# Altium integrated library Analog Devices Operational Amplifiers.IntLib: 2102 symbols (part 65 of 70)
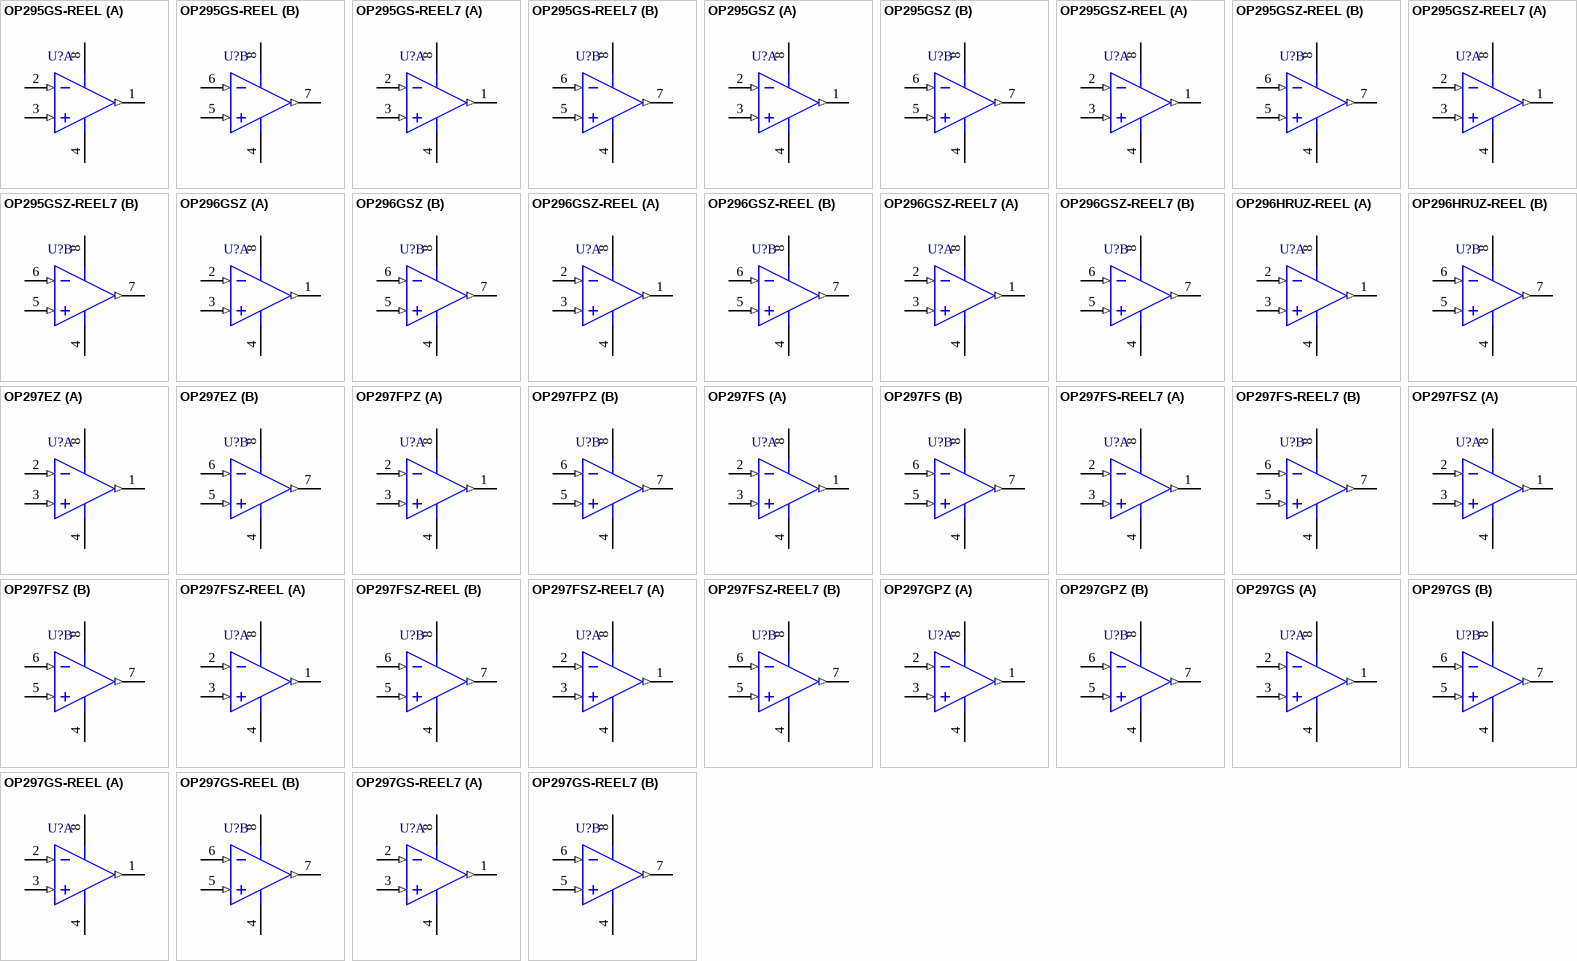
[diagram p178: symbols OP295GS-REEL to OP297GS-REEL7]

## OP297FSZ
designator U?
Double Channel Very Low Bias Current Operational Amplifier, 500 KHz BW, 150 mV/us SR, Industrial, 8-pin SOIC (R-8), Tube; Generic Part Number: OP297; Manufacturer: Analog Devices; PartNumber: OP297FSZ; Amplifiers Per Package: 2; Input Bias Current: 50pA; Input Offset Voltage: 80uV; Iq/Amp: 625uA; Small Signal Bandwidth: 500KHz; V Span Max: 40V; V Span Min: 4V; DatasheetVersion: Rev. G; PackageVersion: 060506-A; PackageReference: R-8; PackageDescription: 8-Pin Standard Small Outline Package, Body 3.9 x 4.9 mm, Pitch 1.27 mm; Supplier 1: Digi-Key; Supplier Part Number 1: OP297FSZ-ND; Supplier 2: Farnell; Supplier Part Number 2: 1319503; Supplier 3: Newark; Supplier Part Number 3: 19M8982; Packing: Tube; Slew Rate: 150mV/us; Mounting Technology: Surface Mount; Code_JEDEC: MS-012-AA; ComponentLink1Description: Manufacturer URL; ComponentLink1URL: http://www.analog.com/en/index.html; ComponentLink2Description: Datasheet; ComponentLink2URL: http://www.analog.com/static/imported-files/data_sheets/OP297.pdf; ComponentLink3Description: Package Specification; ComponentLink3URL: http://www.analog.com/static/imported-files/packages/PKG_PDF/SOIC_Narrow%20(R)/R_8.pdf
footprint ADI-R-8_N (SOIC, 8-Leads, Body 4.9x3.9mm, Pitch 1.27mm, IPC Medium Density)
footprint ADI-R-8_L (SOIC, 8-Leads, Body 4.9x3.9mm, Pitch 1.27mm, IPC High Density)
footprint ADI-R-8_M (SOIC, 8-Leads, Body 4.9x3.9mm, Pitch 1.27mm, IPC Low Density)
pins on every part: 4 -V (power), 8 +V (power)
part A pins: 1 OUT A (out), 2 -IN A (in), 3 +IN A (in)
part B pins: 5 +IN B (in), 6 -IN B (in), 7 OUT B (out)

## OP297FSZ-REEL
designator U?
Double Channel Very Low Bias Current Operational Amplifier, 500 KHz BW, 150 mV/us SR, Industrial, 8-pin SOIC (R-8), Reel; Generic Part Number: OP297; Manufacturer: Analog Devices; PartNumber: OP297FSZ-REEL; Amplifiers Per Package: 2; Input Bias Current: 50pA; Input Offset Voltage: 80uV; Iq/Amp: 625uA; Small Signal Bandwidth: 500KHz; V Span Max: 40V; V Span Min: 4V; DatasheetVersion: Rev. G; PackageVersion: 060506-A; PackageReference: R-8; PackageDescription: 8-Pin Standard Small Outline Package, Body 3.9 x 4.9 mm, Pitch 1.27 mm; Supplier 1: Digi-Key; Supplier Part Number 1: OP297FSZ-REEL-ND; Supplier 2: Newark; Supplier Part Number 2: 59K8878; Packing: Reel; Slew Rate: 150mV/us; Mounting Technology: Surface Mount; Code_JEDEC: MS-012-AA; ComponentLink1Description: Manufacturer URL; ComponentLink1URL: http://www.analog.com/en/index.html; ComponentLink2Description: Datasheet; ComponentLink2URL: http://www.analog.com/static/imported-files/data_sheets/OP297.pdf; ComponentLink3Description: Package Specification; ComponentLink3URL: http://www.analog.com/static/imported-files/packages/PKG_PDF/SOIC_Narrow%20(R)/R_8.pdf
footprint ADI-R-8_N (SOIC, 8-Leads, Body 4.9x3.9mm, Pitch 1.27mm, IPC Medium Density)
footprint ADI-R-8_L (SOIC, 8-Leads, Body 4.9x3.9mm, Pitch 1.27mm, IPC High Density)
footprint ADI-R-8_M (SOIC, 8-Leads, Body 4.9x3.9mm, Pitch 1.27mm, IPC Low Density)
pins on every part: 4 -V (power), 8 +V (power)
part A pins: 1 OUT A (out), 2 -IN A (in), 3 +IN A (in)
part B pins: 5 +IN B (in), 6 -IN B (in), 7 OUT B (out)

## OP297FSZ-REEL7
designator U?
Double Channel Very Low Bias Current Operational Amplifier, 500 KHz BW, 150 mV/us SR, Industrial, 8-pin SOIC (R-8), Reel; Generic Part Number: OP297; Manufacturer: Analog Devices; PartNumber: OP297FSZ-REEL7; Amplifiers Per Package: 2; Input Bias Current: 50pA; Input Offset Voltage: 80uV; Iq/Amp: 625uA; Small Signal Bandwidth: 500KHz; V Span Max: 40V; V Span Min: 4V; DatasheetVersion: Rev. G; PackageVersion: 060506-A; PackageReference: R-8; PackageDescription: 8-Pin Standard Small Outline Package, Body 3.9 x 4.9 mm, Pitch 1.27 mm; Supplier 1: Digi-Key; Supplier Part Number 1: OP297FSZ-REEL7TR-ND; Supplier 2: Digi-Key; Supplier Part Number 2: OP297FSZ-REEL7CT-ND; Supplier 3: Digi-Key; Supplier Part Number 3: OP297FSZ-REEL7DKR-ND; Supplier 4: Newark; Supplier Part Number 4: 59K8879; Packing: Reel; Slew Rate: 150mV/us; Mounting Technology: Surface Mount; Code_JEDEC: MS-012-AA; ComponentLink1Description: Manufacturer URL; ComponentLink1URL: http://www.analog.com/en/index.html; ComponentLink2Description: Datasheet; ComponentLink2URL: http://www.analog.com/static/imported-files/data_sheets/OP297.pdf; ComponentLink3Description: Package Specification; ComponentLink3URL: http://www.analog.com/static/imported-files/packages/PKG_PDF/SOIC_Narrow%20(R)/R_8.pdf
footprint ADI-R-8_N (SOIC, 8-Leads, Body 4.9x3.9mm, Pitch 1.27mm, IPC Medium Density)
footprint ADI-R-8_L (SOIC, 8-Leads, Body 4.9x3.9mm, Pitch 1.27mm, IPC High Density)
footprint ADI-R-8_M (SOIC, 8-Leads, Body 4.9x3.9mm, Pitch 1.27mm, IPC Low Density)
pins on every part: 4 -V (power), 8 +V (power)
part A pins: 1 OUT A (out), 2 -IN A (in), 3 +IN A (in)
part B pins: 5 +IN B (in), 6 -IN B (in), 7 OUT B (out)

## OP297GPZ
designator U?
Double Channel Very Low Bias Current Operational Amplifier, 500 KHz BW, 150 mV/us SR, Industrial, 8-pin DIP (N-8), Tube; Generic Part Number: OP297; Manufacturer: Analog Devices; PartNumber: OP297GPZ; Amplifiers Per Package: 2; Input Bias Current: 50pA; Input Offset Voltage: 80uV; Iq/Amp: 625uA; Small Signal Bandwidth: 500KHz; V Span Max: 40V; V Span Min: 4V; DatasheetVersion: Rev. G; PackageVersion: 070606-A; PackageReference: N-8; PackageDescription: 8-Pin Plastic Dual In-Line Package, Row spacing 7.62 mm, Pitch 2.54 mm; Supplier 1: Digi-Key; Supplier Part Number 1: OP297GPZ-ND; Supplier 2: Farnell; Supplier Part Number 2: 9604758; Supplier 3: Newark; Supplier Part Number 3: 19M8983; Packing: Tube; Slew Rate: 150mV/us; Mounting Technology: Through Hole; Code_JEDEC: MS-001; ComponentLink1Description: Manufacturer URL; ComponentLink1URL: http://www.analog.com/en/index.html; ComponentLink2Description: Datasheet; ComponentLink2URL: http://www.analog.com/static/imported-files/data_sheets/OP297.pdf; ComponentLink3Description: Package Specification; ComponentLink3URL: http:/www.analog.com/static/imported-files/packages/PKG_PDF/PDIP(N)/N_8.pdf
footprint ADI-N-8 (DIP, 8-Leads, Body 9.59x6.6mm, Pitch 2.54mm)
pins on every part: 4 -V (power), 8 +V (power)
part A pins: 1 OUT A (out), 2 -IN A (in), 3 +IN A (in)
part B pins: 5 +IN B (in), 6 -IN B (in), 7 OUT B (out)

## OP297GS
designator U?
Double Channel Very Low Bias Current Operational Amplifier, 500 KHz BW, 150 mV/us SR, Industrial, 8-pin SOIC (R-8), Tube; Generic Part Number: OP297; Manufacturer: Analog Devices; PartNumber: OP297GS; Amplifiers Per Package: 2; Input Bias Current: 50pA; Input Offset Voltage: 80uV; Iq/Amp: 625uA; Small Signal Bandwidth: 500KHz; V Span Max: 40V; V Span Min: 4V; DatasheetVersion: Rev. G; PackageVersion: 060506-A; PackageReference: R-8; PackageDescription: 8-Pin Standard Small Outline Package, Body 3.9 x 4.9 mm, Pitch 1.27 mm; Supplier 1: Digi-Key; Supplier Part Number 1: OP297GS-ND; Packing: Tube; Slew Rate: 150mV/us; Mounting Technology: Surface Mount; Code_JEDEC: MS-012-AA; ComponentLink1Description: Manufacturer URL; ComponentLink1URL: http://www.analog.com/en/index.html; ComponentLink2Description: Datasheet; ComponentLink2URL: http://www.analog.com/static/imported-files/data_sheets/OP297.pdf; ComponentLink3Description: Package Specification; ComponentLink3URL: http://www.analog.com/static/imported-files/packages/PKG_PDF/SOIC_Narrow%20(R)/R_8.pdf
footprint ADI-R-8_N (SOIC, 8-Leads, Body 4.9x3.9mm, Pitch 1.27mm, IPC Medium Density)
footprint ADI-R-8_L (SOIC, 8-Leads, Body 4.9x3.9mm, Pitch 1.27mm, IPC High Density)
footprint ADI-R-8_M (SOIC, 8-Leads, Body 4.9x3.9mm, Pitch 1.27mm, IPC Low Density)
pins on every part: 4 -V (power), 8 +V (power)
part A pins: 1 OUT A (out), 2 -IN A (in), 3 +IN A (in)
part B pins: 5 +IN B (in), 6 -IN B (in), 7 OUT B (out)

## OP297GS-REEL
designator U?
Double Channel Very Low Bias Current Operational Amplifier, 500 KHz BW, 150 mV/us SR, Industrial, 8-pin SOIC (R-8), Reel; Generic Part Number: OP297; Manufacturer: Analog Devices; PartNumber: OP297GS-REEL; Amplifiers Per Package: 2; Input Bias Current: 50pA; Input Offset Voltage: 80uV; Iq/Amp: 625uA; Small Signal Bandwidth: 500KHz; V Span Max: 40V; V Span Min: 4V; DatasheetVersion: Rev. G; PackageVersion: 060506-A; PackageReference: R-8; PackageDescription: 8-Pin Standard Small Outline Package, Body 3.9 x 4.9 mm, Pitch 1.27 mm; Supplier 1: Digi-Key; Supplier Part Number 1: OP297GS-REEL-ND; Supplier 2: Newark; Supplier Part Number 2: 13B4628; Packing: Reel; Slew Rate: 150mV/us; Mounting Technology: Surface Mount; Code_JEDEC: MS-012-AA; ComponentLink1Description: Manufacturer URL; ComponentLink1URL: http://www.analog.com/en/index.html; ComponentLink2Description: Datasheet; ComponentLink2URL: http://www.analog.com/static/imported-files/data_sheets/OP297.pdf; ComponentLink3Description: Package Specification; ComponentLink3URL: http://www.analog.com/static/imported-files/packages/PKG_PDF/SOIC_Narrow%20(R)/R_8.pdf
footprint ADI-R-8_N (SOIC, 8-Leads, Body 4.9x3.9mm, Pitch 1.27mm, IPC Medium Density)
footprint ADI-R-8_L (SOIC, 8-Leads, Body 4.9x3.9mm, Pitch 1.27mm, IPC High Density)
footprint ADI-R-8_M (SOIC, 8-Leads, Body 4.9x3.9mm, Pitch 1.27mm, IPC Low Density)
pins on every part: 4 -V (power), 8 +V (power)
part A pins: 1 OUT A (out), 2 -IN A (in), 3 +IN A (in)
part B pins: 5 +IN B (in), 6 -IN B (in), 7 OUT B (out)

## OP297GS-REEL7
designator U?
Double Channel Very Low Bias Current Operational Amplifier, 500 KHz BW, 150 mV/us SR, Industrial, 8-pin SOIC (R-8), Reel; Generic Part Number: OP297; Manufacturer: Analog Devices; PartNumber: OP297GS-REEL7; Amplifiers Per Package: 2; Input Bias Current: 50pA; Input Offset Voltage: 80uV; Iq/Amp: 625uA; Small Signal Bandwidth: 500KHz; V Span Max: 40V; V Span Min: 4V; DatasheetVersion: Rev. G; PackageVersion: 060506-A; PackageReference: R-8; PackageDescription: 8-Pin Standard Small Outline Package, Body 3.9 x 4.9 mm, Pitch 1.27 mm; Supplier 1: Digi-Key; Supplier Part Number 1: OP297GS-REEL7TR-ND; Supplier 2: Digi-Key; Supplier Part Number 2: OP297GS-REEL7CT-ND; Supplier 3: Digi-Key; Supplier Part Number 3: OP297GS-REEL7DKR-ND; Supplier 4: Newark; Supplier Part Number 4: 13B4629; Packing: Reel; Slew Rate: 150mV/us; Mounting Technology: Surface Mount; Code_JEDEC: MS-012-AA; ComponentLink1Description: Manufacturer URL; ComponentLink1URL: http://www.analog.com/en/index.html; ComponentLink2Description: Datasheet; ComponentLink2URL: http://www.analog.com/static/imported-files/data_sheets/OP297.pdf; ComponentLink3Description: Package Specification; ComponentLink3URL: http://www.analog.com/static/imported-files/packages/PKG_PDF/SOIC_Narrow%20(R)/R_8.pdf
footprint ADI-R-8_N (SOIC, 8-Leads, Body 4.9x3.9mm, Pitch 1.27mm, IPC Medium Density)
footprint ADI-R-8_L (SOIC, 8-Leads, Body 4.9x3.9mm, Pitch 1.27mm, IPC High Density)
footprint ADI-R-8_M (SOIC, 8-Leads, Body 4.9x3.9mm, Pitch 1.27mm, IPC Low Density)
pins on every part: 4 -V (power), 8 +V (power)
part A pins: 1 OUT A (out), 2 -IN A (in), 3 +IN A (in)
part B pins: 5 +IN B (in), 6 -IN B (in), 7 OUT B (out)

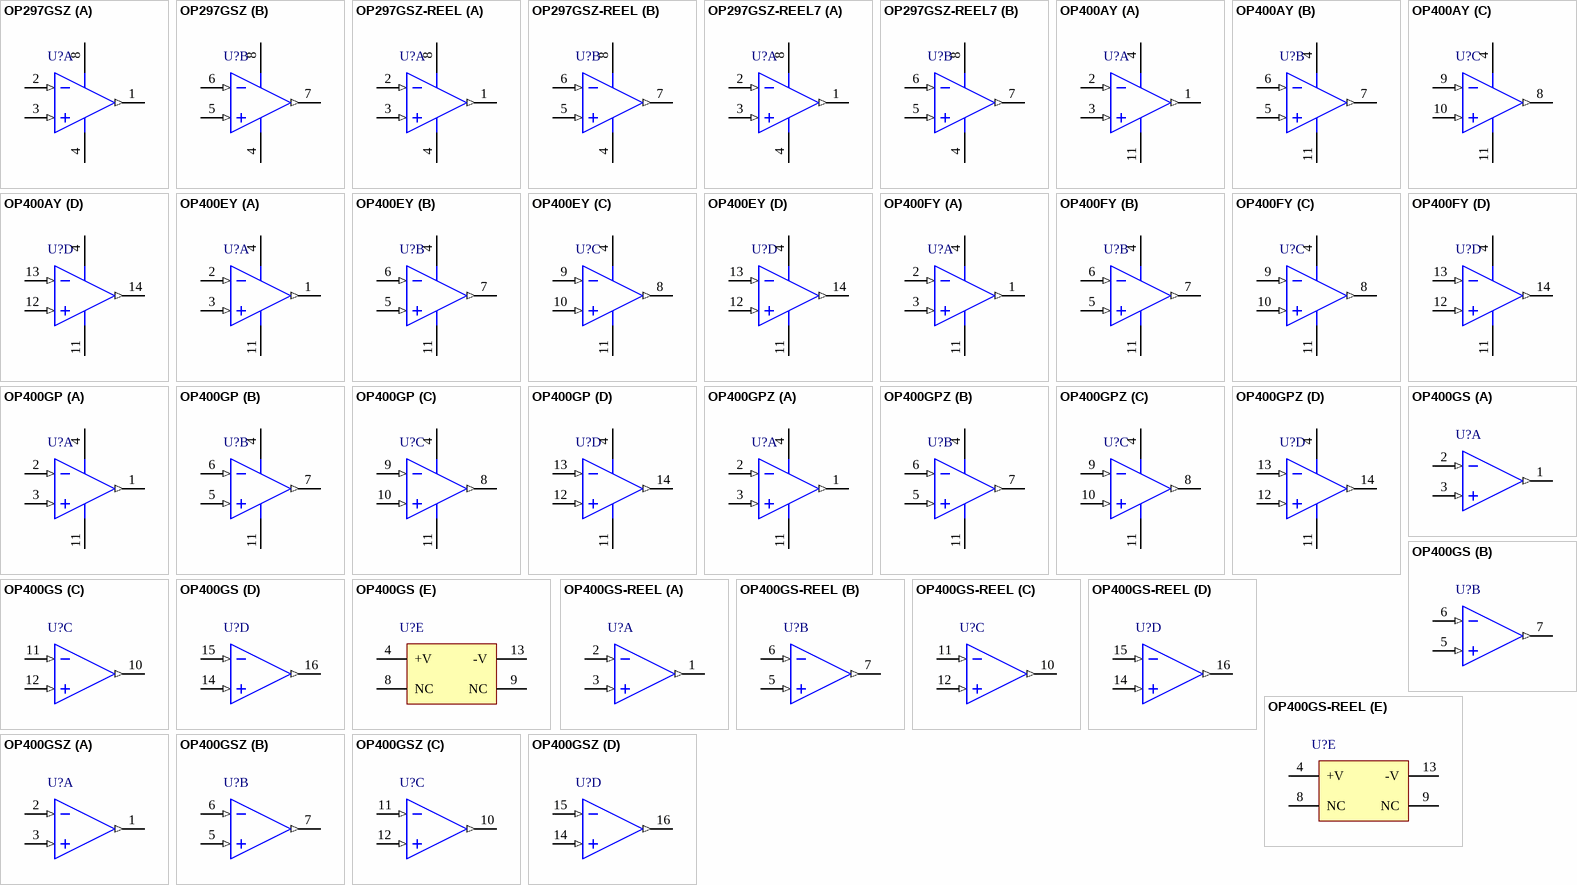
[diagram p100: symbols OP297GSZ to OP400GSZ]

## OP297GSZ
designator U?
Double Channel Very Low Bias Current Operational Amplifier, 500 KHz BW, 150 mV/us SR, Industrial, 8-pin SOIC (R-8), Tube; Generic Part Number: OP297; Manufacturer: Analog Devices; PartNumber: OP297GSZ; Amplifiers Per Package: 2; Input Bias Current: 50pA; Input Offset Voltage: 80uV; Iq/Amp: 625uA; Small Signal Bandwidth: 500KHz; V Span Max: 40V; V Span Min: 4V; DatasheetVersion: Rev. G; PackageVersion: 060506-A; PackageReference: R-8; PackageDescription: 8-Pin Standard Small Outline Package, Body 3.9 x 4.9 mm, Pitch 1.27 mm; Supplier 1: Digi-Key; Supplier Part Number 1: OP297GSZ-ND; Supplier 2: Farnell; Supplier Part Number 2: 9426299; Supplier 3: Newark; Supplier Part Number 3: 56K8267; Packing: Tube; Slew Rate: 150mV/us; Mounting Technology: Surface Mount; Code_JEDEC: MS-012-AA; ComponentLink1Description: Manufacturer URL; ComponentLink1URL: http://www.analog.com/en/index.html; ComponentLink2Description: Datasheet; ComponentLink2URL: http://www.analog.com/static/imported-files/data_sheets/OP297.pdf; ComponentLink3Description: Package Specification; ComponentLink3URL: http://www.analog.com/static/imported-files/packages/PKG_PDF/SOIC_Narrow%20(R)/R_8.pdf
footprint ADI-R-8_N (SOIC, 8-Leads, Body 4.9x3.9mm, Pitch 1.27mm, IPC Medium Density)
footprint ADI-R-8_L (SOIC, 8-Leads, Body 4.9x3.9mm, Pitch 1.27mm, IPC High Density)
footprint ADI-R-8_M (SOIC, 8-Leads, Body 4.9x3.9mm, Pitch 1.27mm, IPC Low Density)
pins on every part: 4 -V (power), 8 +V (power)
part A pins: 1 OUT A (out), 2 -IN A (in), 3 +IN A (in)
part B pins: 5 +IN B (in), 6 -IN B (in), 7 OUT B (out)

## OP297GSZ-REEL
designator U?
Double Channel Very Low Bias Current Operational Amplifier, 500 KHz BW, 150 mV/us SR, Industrial, 8-pin SOIC (R-8), Reel; Generic Part Number: OP297; Manufacturer: Analog Devices; PartNumber: OP297GSZ-REEL; Amplifiers Per Package: 2; Input Bias Current: 50pA; Input Offset Voltage: 80uV; Iq/Amp: 625uA; Small Signal Bandwidth: 500KHz; V Span Max: 40V; V Span Min: 4V; DatasheetVersion: Rev. G; PackageVersion: 060506-A; PackageReference: R-8; PackageDescription: 8-Pin Standard Small Outline Package, Body 3.9 x 4.9 mm, Pitch 1.27 mm; Supplier 1: Digi-Key; Supplier Part Number 1: OP297GSZ-REEL-ND; Supplier 2: Newark; Supplier Part Number 2: 59K8882; Packing: Reel; Slew Rate: 150mV/us; Mounting Technology: Surface Mount; Code_JEDEC: MS-012-AA; ComponentLink1Description: Manufacturer URL; ComponentLink1URL: http://www.analog.com/en/index.html; ComponentLink2Description: Datasheet; ComponentLink2URL: http://www.analog.com/static/imported-files/data_sheets/OP297.pdf; ComponentLink3Description: Package Specification; ComponentLink3URL: http://www.analog.com/static/imported-files/packages/PKG_PDF/SOIC_Narrow%20(R)/R_8.pdf
footprint ADI-R-8_N (SOIC, 8-Leads, Body 4.9x3.9mm, Pitch 1.27mm, IPC Medium Density)
footprint ADI-R-8_L (SOIC, 8-Leads, Body 4.9x3.9mm, Pitch 1.27mm, IPC High Density)
footprint ADI-R-8_M (SOIC, 8-Leads, Body 4.9x3.9mm, Pitch 1.27mm, IPC Low Density)
pins on every part: 4 -V (power), 8 +V (power)
part A pins: 1 OUT A (out), 2 -IN A (in), 3 +IN A (in)
part B pins: 5 +IN B (in), 6 -IN B (in), 7 OUT B (out)

## OP297GSZ-REEL7
designator U?
Double Channel Very Low Bias Current Operational Amplifier, 500 KHz BW, 150 mV/us SR, Industrial, 8-pin SOIC (R-8), Reel; Generic Part Number: OP297; Manufacturer: Analog Devices; PartNumber: OP297GSZ-REEL7; Amplifiers Per Package: 2; Input Bias Current: 50pA; Input Offset Voltage: 80uV; Iq/Amp: 625uA; Small Signal Bandwidth: 500KHz; V Span Max: 40V; V Span Min: 4V; DatasheetVersion: Rev. G; PackageVersion: 060506-A; PackageReference: R-8; PackageDescription: 8-Pin Standard Small Outline Package, Body 3.9 x 4.9 mm, Pitch 1.27 mm; Supplier 1: Digi-Key; Supplier Part Number 1: OP297GSZ-REEL7TR-ND; Supplier 2: Digi-Key; Supplier Part Number 2: OP297GSZ-REEL7CT-ND; Supplier 3: Digi-Key; Supplier Part Number 3: OP297GSZ-REEL7DKR-ND; Supplier 4: Newark; Supplier Part Number 4: 59K8883; Packing: Reel; Slew Rate: 150mV/us; Mounting Technology: Surface Mount; Code_JEDEC: MS-012-AA; ComponentLink1Description: Manufacturer URL; ComponentLink1URL: http://www.analog.com/en/index.html; ComponentLink2Description: Datasheet; ComponentLink2URL: http://www.analog.com/static/imported-files/data_sheets/OP297.pdf; ComponentLink3Description: Package Specification; ComponentLink3URL: http://www.analog.com/static/imported-files/packages/PKG_PDF/SOIC_Narrow%20(R)/R_8.pdf
footprint ADI-R-8_N (SOIC, 8-Leads, Body 4.9x3.9mm, Pitch 1.27mm, IPC Medium Density)
footprint ADI-R-8_L (SOIC, 8-Leads, Body 4.9x3.9mm, Pitch 1.27mm, IPC High Density)
footprint ADI-R-8_M (SOIC, 8-Leads, Body 4.9x3.9mm, Pitch 1.27mm, IPC Low Density)
pins on every part: 4 -V (power), 8 +V (power)
part A pins: 1 OUT A (out), 2 -IN A (in), 3 +IN A (in)
part B pins: 5 +IN B (in), 6 -IN B (in), 7 OUT B (out)

## OP400AY
designator U?
Quad Channel Low Supply Current Operational Amplifier, 500 KHz BW, 150 mV/us SR, Industrial, 14-pin DIP (Q-14), Tube; Generic Part Number: OP400; Manufacturer: Analog Devices; PartNumber: OP400AY; Amplifiers Per Package: 4; Input Bias Current: 750pA; Input Offset Voltage: 80uV; Iq/Amp: 725uA; Small Signal Bandwidth: 500KHz; V Span Max: 40V; V Span Min: 6V; DatasheetVersion: Rev. G; PackageReference: Q-14; PackageDescription: 14-Pin Ceramic Dual In-Line Package, Row spacing 7.62 mm, Pitch 2.54 mm; Supplier 1: Digi-Key; Supplier Part Number 1: OP400AY-ND; Supplier 2: Newark; Supplier Part Number 2: 66F5753; Packing: Tube; Slew Rate: 150mV/us; Mounting Technology: Through Hole; ComponentLink1Description: Manufacturer URL; ComponentLink1URL: http://www.analog.com/en/index.html; ComponentLink2Description: Datasheet; ComponentLink2URL: http://www.analog.com/static/imported-files/data_sheets/OP400.pdf; ComponentLink3Description: Package Specification; ComponentLink3URL: http://www.analog.com/static/imported-files/packages/393665681442905251546090Q_14.pdf
footprint ADI-Q-14 (DIP, 14-Leads, Body 19.94x6.73mm, Pitch 2.54mm)
pins on every part: 4 +V (power), 11 -V (power)
part A pins: 1 OUT A (out), 2 -IN A (in), 3 +IN A (in)
part B pins: 5 +IN B (in), 6 -IN B (in), 7 OUT B (out)
part C pins: 8 OUT C (out), 9 -IN C (in), 10 +IN C (in)
part D pins: 12 +IN D (in), 13 -IN D (in), 14 OUT D (out)

## OP400EY
designator U?
Quad Channel Low Supply Current Operational Amplifier, 500 KHz BW, 150 mV/us SR, Industrial, 14-pin DIP (Q-14), Tube; Generic Part Number: OP400; Manufacturer: Analog Devices; PartNumber: OP400EY; Amplifiers Per Package: 4; Input Bias Current: 750pA; Input Offset Voltage: 80uV; Iq/Amp: 725uA; Small Signal Bandwidth: 500KHz; V Span Max: 40V; V Span Min: 6V; DatasheetVersion: Rev. G; PackageReference: Q-14; PackageDescription: 14-Pin Ceramic Dual In-Line Package, Row spacing 7.62 mm, Pitch 2.54 mm; Supplier 1: Digi-Key; Supplier Part Number 1: OP400EY-ND; Supplier 2: Farnell; Supplier Part Number 2: 2241638; Supplier 3: Newark; Supplier Part Number 3: 05F8665; Packing: Tube; Slew Rate: 150mV/us; Mounting Technology: Through Hole; ComponentLink1Description: Manufacturer URL; ComponentLink1URL: http://www.analog.com/en/index.html; ComponentLink2Description: Datasheet; ComponentLink2URL: http://www.analog.com/static/imported-files/data_sheets/OP400.pdf; ComponentLink3Description: Package Specification; ComponentLink3URL: http://www.analog.com/static/imported-files/packages/393665681442905251546090Q_14.pdf
footprint ADI-Q-14 (DIP, 14-Leads, Body 19.94x6.73mm, Pitch 2.54mm)
pins on every part: 4 +V (power), 11 -V (power)
part A pins: 1 OUT A (out), 2 -IN A (in), 3 +IN A (in)
part B pins: 5 +IN B (in), 6 -IN B (in), 7 OUT B (out)
part C pins: 8 OUT C (out), 9 -IN C (in), 10 +IN C (in)
part D pins: 12 +IN D (in), 13 -IN D (in), 14 OUT D (out)

## OP400FY
designator U?
Quad Channel Low Supply Current Operational Amplifier, 500 KHz BW, 150 mV/us SR, Industrial, 14-pin DIP (Q-14), Tube; Generic Part Number: OP400; Manufacturer: Analog Devices; PartNumber: OP400FY; Amplifiers Per Package: 4; Input Bias Current: 750pA; Input Offset Voltage: 80uV; Iq/Amp: 725uA; Small Signal Bandwidth: 500KHz; V Span Max: 40V; V Span Min: 6V; DatasheetVersion: Rev. G; PackageReference: Q-14; PackageDescription: 14-Pin Ceramic Dual In-Line Package, Row spacing 7.62 mm, Pitch 2.54 mm; Supplier 1: Digi-Key; Supplier Part Number 1: OP400FY-ND; Supplier 2: Farnell; Supplier Part Number 2: 400403; Supplier 3: Newark; Supplier Part Number 3: 05F8666; Packing: Tube; Slew Rate: 150mV/us; Mounting Technology: Through Hole; ComponentLink1Description: Manufacturer URL; ComponentLink1URL: http://www.analog.com/en/index.html; ComponentLink2Description: Datasheet; ComponentLink2URL: http://www.analog.com/static/imported-files/data_sheets/OP400.pdf; ComponentLink3Description: Package Specification; ComponentLink3URL: http://www.analog.com/static/imported-files/packages/393665681442905251546090Q_14.pdf
footprint ADI-Q-14 (DIP, 14-Leads, Body 19.94x6.73mm, Pitch 2.54mm)
pins on every part: 4 +V (power), 11 -V (power)
part A pins: 1 OUT A (out), 2 -IN A (in), 3 +IN A (in)
part B pins: 5 +IN B (in), 6 -IN B (in), 7 OUT B (out)
part C pins: 8 OUT C (out), 9 -IN C (in), 10 +IN C (in)
part D pins: 12 +IN D (in), 13 -IN D (in), 14 OUT D (out)

## OP400GP
designator U?
Quad Channel Low Supply Current Operational Amplifier, 500 KHz BW, 150 mV/us SR, Commercial, 14-pin DIP (N-14), Tube; Generic Part Number: OP400; Manufacturer: Analog Devices; PartNumber: OP400GP; Amplifiers Per Package: 4; Input Bias Current: 750pA; Input Offset Voltage: 80uV; Iq/Amp: 600uA; Small Signal Bandwidth: 500KHz; V Span Max: 40V; V Span Min: 6V; DatasheetVersion: Rev. G; PackageVersion: 070606-A; PackageReference: N-14; PackageDescription: 14-Pin Plastic Dual In-Line Package, Row spacing 7.62 mm, Pitch 2.54 mm; Supplier 1: Digi-Key; Supplier Part Number 1: OP400GP-ND; Packing: Tube; Slew Rate: 150mV/us; Mounting Technology: Through Hole; Code_JEDEC: MS-001; ComponentLink1Description: Manufacturer URL; ComponentLink1URL: http://www.analog.com/en/index.html; ComponentLink2Description: Datasheet; ComponentLink2URL: http://www.analog.com/static/imported-files/data_sheets/OP400.pdf; ComponentLink3Description: Package Specification; ComponentLink3URL: http://www.analog.com/static/imported-files/packages/N_14.pdf
footprint ADI-N-14 (DIP, 14-Leads, Body 19.18x6.605mm, Pitch 2.54mm)
pins on every part: 4 +V (power), 11 -V (power)
part A pins: 1 OUT A (out), 2 -IN A (in), 3 +IN A (in)
part B pins: 5 +IN B (in), 6 -IN B (in), 7 OUT B (out)
part C pins: 8 OUT C (out), 9 -IN C (in), 10 +IN C (in)
part D pins: 12 +IN D (in), 13 -IN D (in), 14 OUT D (out)

## OP400GPZ
designator U?
Quad Channel Low Supply Current Operational Amplifier, 500 KHz BW, 150 mV/us SR, Commercial, 14-pin DIP (N-14), Tube; Generic Part Number: OP400; Manufacturer: Analog Devices; PartNumber: OP400GPZ; Amplifiers Per Package: 4; Input Bias Current: 750pA; Input Offset Voltage: 80uV; Iq/Amp: 600uA; Small Signal Bandwidth: 500KHz; V Span Max: 40V; V Span Min: 6V; DatasheetVersion: Rev. G; PackageVersion: 070606-A; PackageReference: N-14; PackageDescription: 14-Pin Plastic Dual In-Line Package, Row spacing 7.62 mm, Pitch 2.54 mm; Supplier 1: Digi-Key; Supplier Part Number 1: OP400GPZ-ND; Supplier 2: Farnell; Supplier Part Number 2: 1523896; Supplier 3: Farnell; Supplier Part Number 3: 9604782; Supplier 4: Newark; Supplier Part Number 4: 59K8889; Packing: Tube; Slew Rate: 150mV/us; Mounting Technology: Through Hole; Code_JEDEC: MS-001; ComponentLink1Description: Manufacturer URL; ComponentLink1URL: http://www.analog.com/en/index.html; ComponentLink2Description: Datasheet; ComponentLink2URL: http://www.analog.com/static/imported-files/data_sheets/OP400.pdf; ComponentLink3Description: Package Specification; ComponentLink3URL: http://www.analog.com/static/imported-files/packages/N_14.pdf
footprint ADI-N-14 (DIP, 14-Leads, Body 19.18x6.605mm, Pitch 2.54mm)
pins on every part: 4 +V (power), 11 -V (power)
part A pins: 1 OUT A (out), 2 -IN A (in), 3 +IN A (in)
part B pins: 5 +IN B (in), 6 -IN B (in), 7 OUT B (out)
part C pins: 8 OUT C (out), 9 -IN C (in), 10 +IN C (in)
part D pins: 12 +IN D (in), 13 -IN D (in), 14 OUT D (out)

## OP400GS
designator U?
Quad Channel Low Supply Current Operational Amplifier, 500 KHz BW, 150 mV/us SR, Commercial, 16-pin SOIC (RW-16), Tube; Generic Part Number: OP400; Manufacturer: Analog Devices; PartNumber: OP400GS; Amplifiers Per Package: 4; Input Bias Current: 750pA; Input Offset Voltage: 80uV; Iq/Amp: 600uA; Small Signal Bandwidth: 500KHz; V Span Max: 40V; V Span Min: 6V; DatasheetVersion: Rev. G; PackageVersion: 032707-B; PackageReference: RW-16; PackageDescription: 16-Pin Standard Small Outline Package, Body 10.3 x 7.5 mm, Pitch 1.27 mm; Supplier 1: Digi-Key; Supplier Part Number 1: OP400GS-ND; Packing: Tube; Slew Rate: 150mV/us; Mounting Technology: Surface Mount; Code_JEDEC: MS-013-AA; ComponentLink1Description: Manufacturer URL; ComponentLink1URL: http://www.analog.com/en/index.html; ComponentLink2Description: Datasheet; ComponentLink2URL: http://www.analog.com/static/imported-files/data_sheets/OP400.pdf; ComponentLink3Description: Package Specification; ComponentLink3URL: http://www.analog.com/static/imported-files/packages/PKG_PDF/SOIC_WIDE%20%28RW%29/RW_16.pdf
footprint ADI-RW-16_N (SOIC, 16-Leads, Body 10.3x7.5mm, Pitch 1.27mm,IPC Medium Density)
footprint ADI-RW-16_L (SOIC, 16-Leads, Body 10.3x7.5mm, Pitch 1.27mm, IPC High Density)
footprint ADI-RW-16_M (SOIC, 16-Leads, Body 10.3x7.5mm, Pitch 1.27mm, IPC Low Density)
part A pins: 1 OUT A (out), 2 -IN A (in), 3 +IN A (in)
part B pins: 5 +IN B (in), 6 -IN B (in), 7 OUT B (out)
part C pins: 10 OUT C (out), 11 -IN C (in), 12 +IN C (in)
part D pins: 14 +IN D (in), 15 -IN D (in), 16 OUT D (out)
part E pins: 4 +V (power), 8 NC, 9 NC, 13 -V (power)

## OP400GS-REEL
designator U?
Quad Channel Low Supply Current Operational Amplifier, 500 KHz BW, 150 mV/us SR, Commercial, 16-pin SOIC (RW-16), Reel; Generic Part Number: OP400; Manufacturer: Analog Devices; PartNumber: OP400GS-REEL; Amplifiers Per Package: 4; Input Bias Current: 750pA; Input Offset Voltage: 80uV; Iq/Amp: 600uA; Small Signal Bandwidth: 500KHz; V Span Max: 40V; V Span Min: 6V; DatasheetVersion: Rev. G; PackageVersion: 032707-B; PackageReference: RW-16; PackageDescription: 16-Pin Standard Small Outline Package, Body 10.3 x 7.5 mm, Pitch 1.27 mm; Supplier 1: Digi-Key; Supplier Part Number 1: OP400GS-REEL-ND; Supplier 2: Newark; Supplier Part Number 2: 13B4638; Packing: Reel; Slew Rate: 150mV/us; Mounting Technology: Surface Mount; Code_JEDEC: MS-013-AA; ComponentLink1Description: Manufacturer URL; ComponentLink1URL: http://www.analog.com/en/index.html; ComponentLink2Description: Datasheet; ComponentLink2URL: http://www.analog.com/static/imported-files/data_sheets/OP400.pdf; ComponentLink3Description: Package Specification; ComponentLink3URL: http://www.analog.com/static/imported-files/packages/PKG_PDF/SOIC_WIDE%20%28RW%29/RW_16.pdf
footprint ADI-RW-16_N (SOIC, 16-Leads, Body 10.3x7.5mm, Pitch 1.27mm,IPC Medium Density)
footprint ADI-RW-16_L (SOIC, 16-Leads, Body 10.3x7.5mm, Pitch 1.27mm, IPC High Density)
footprint ADI-RW-16_M (SOIC, 16-Leads, Body 10.3x7.5mm, Pitch 1.27mm, IPC Low Density)
part A pins: 1 OUT A (out), 2 -IN A (in), 3 +IN A (in)
part B pins: 5 +IN B (in), 6 -IN B (in), 7 OUT B (out)
part C pins: 10 OUT C (out), 11 -IN C (in), 12 +IN C (in)
part D pins: 14 +IN D (in), 15 -IN D (in), 16 OUT D (out)
part E pins: 4 +V (power), 8 NC, 9 NC, 13 -V (power)

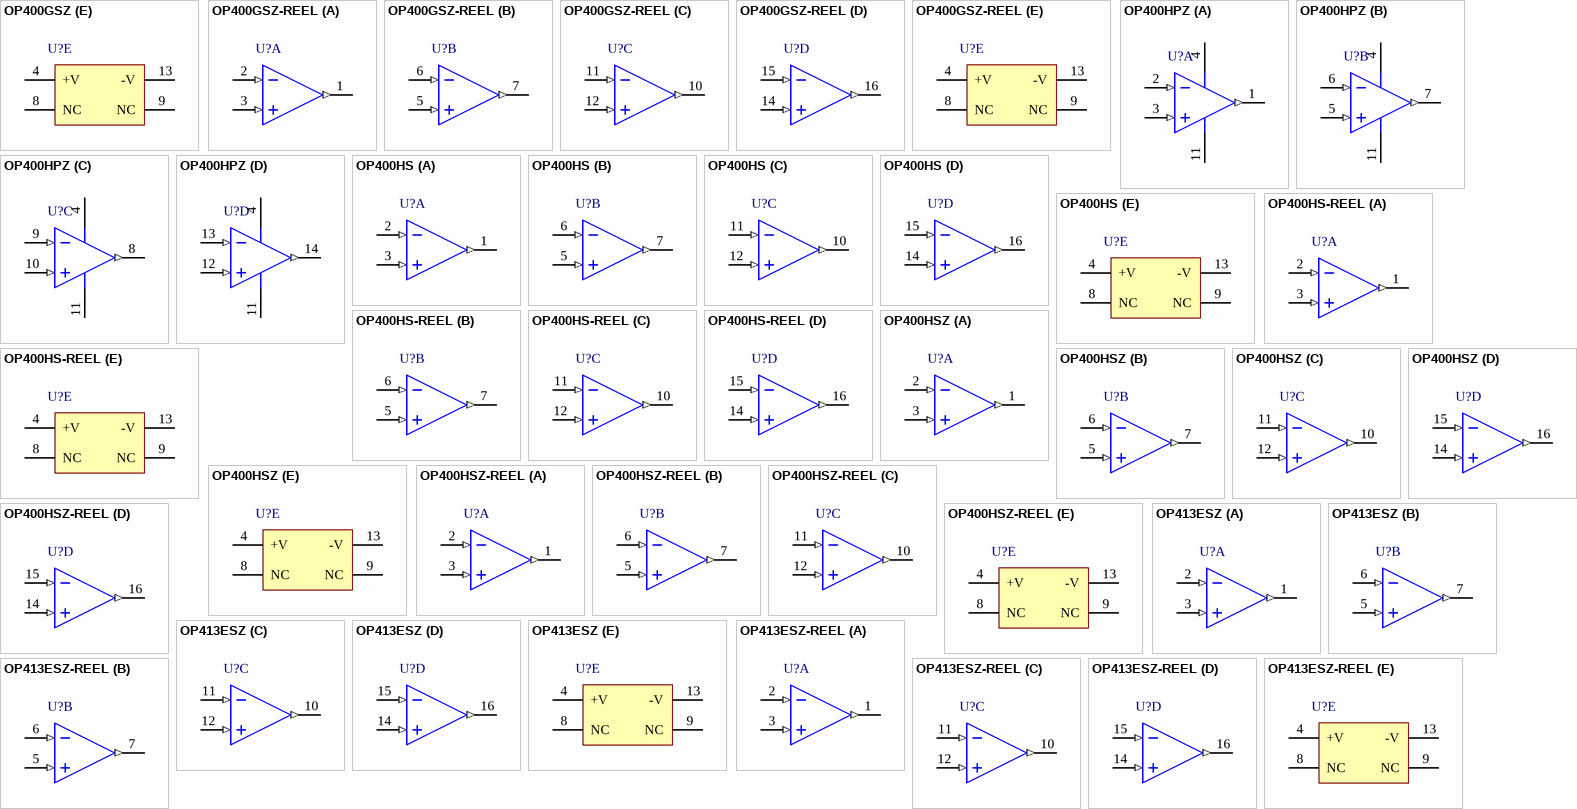
[diagram p101: symbols OP400GSZ to OP413ESZ-REEL]

## OP400GSZ
designator U?
Quad Channel Low Supply Current Operational Amplifier, 500 KHz BW, 150 mV/us SR, Commercial, 16-pin SOIC (RW-16), Tube; Generic Part Number: OP400; Manufacturer: Analog Devices; PartNumber: OP400GSZ; Amplifiers Per Package: 4; Input Bias Current: 750pA; Input Offset Voltage: 80uV; Iq/Amp: 600uA; Small Signal Bandwidth: 500KHz; V Span Max: 40V; V Span Min: 6V; DatasheetVersion: Rev. G; PackageVersion: 032707-B; PackageReference: RW-16; PackageDescription: 16-Pin Standard Small Outline Package, Body 10.3 x 7.5 mm, Pitch 1.27 mm; Supplier 1: Digi-Key; Supplier Part Number 1: OP400GSZ-ND; Supplier 2: Farnell; Supplier Part Number 2: 9426140; Supplier 3: Newark; Supplier Part Number 3: 59K8890; Packing: Tube; Slew Rate: 150mV/us; Mounting Technology: Surface Mount; Code_JEDEC: MS-013-AA; ComponentLink1Description: Manufacturer URL; ComponentLink1URL: http://www.analog.com/en/index.html; ComponentLink2Description: Datasheet; ComponentLink2URL: http://www.analog.com/static/imported-files/data_sheets/OP400.pdf; ComponentLink3Description: Package Specification; ComponentLink3URL: http://www.analog.com/static/imported-files/packages/PKG_PDF/SOIC_WIDE%20%28RW%29/RW_16.pdf
footprint ADI-RW-16_N (SOIC, 16-Leads, Body 10.3x7.5mm, Pitch 1.27mm,IPC Medium Density)
footprint ADI-RW-16_L (SOIC, 16-Leads, Body 10.3x7.5mm, Pitch 1.27mm, IPC High Density)
footprint ADI-RW-16_M (SOIC, 16-Leads, Body 10.3x7.5mm, Pitch 1.27mm, IPC Low Density)
part A pins: 1 OUT A (out), 2 -IN A (in), 3 +IN A (in)
part B pins: 5 +IN B (in), 6 -IN B (in), 7 OUT B (out)
part C pins: 10 OUT C (out), 11 -IN C (in), 12 +IN C (in)
part D pins: 14 +IN D (in), 15 -IN D (in), 16 OUT D (out)
part E pins: 4 +V (power), 8 NC, 9 NC, 13 -V (power)

## OP400GSZ-REEL
designator U?
Quad Channel Low Supply Current Operational Amplifier, 500 KHz BW, 150 mV/us SR, Commercial, 16-pin SOIC (RW-16), Reel; Generic Part Number: OP400; Manufacturer: Analog Devices; PartNumber: OP400GSZ-REEL; Amplifiers Per Package: 4; Input Bias Current: 750pA; Input Offset Voltage: 80uV; Iq/Amp: 600uA; Small Signal Bandwidth: 500KHz; V Span Max: 40V; V Span Min: 6V; DatasheetVersion: Rev. G; PackageVersion: 032707-B; PackageReference: RW-16; PackageDescription: 16-Pin Standard Small Outline Package, Body 10.3 x 7.5 mm, Pitch 1.27 mm; Supplier 1: Digi-Key; Supplier Part Number 1: OP400GSZ-REEL-ND; Supplier 2: Newark; Supplier Part Number 2: 59K8891; Packing: Reel; Slew Rate: 150mV/us; Mounting Technology: Surface Mount; Code_JEDEC: MS-013-AA; ComponentLink1Description: Manufacturer URL; ComponentLink1URL: http://www.analog.com/en/index.html; ComponentLink2Description: Datasheet; ComponentLink2URL: http://www.analog.com/static/imported-files/data_sheets/OP400.pdf; ComponentLink3Description: Package Specification; ComponentLink3URL: http://www.analog.com/static/imported-files/packages/PKG_PDF/SOIC_WIDE%20%28RW%29/RW_16.pdf
footprint ADI-RW-16_N (SOIC, 16-Leads, Body 10.3x7.5mm, Pitch 1.27mm,IPC Medium Density)
footprint ADI-RW-16_L (SOIC, 16-Leads, Body 10.3x7.5mm, Pitch 1.27mm, IPC High Density)
footprint ADI-RW-16_M (SOIC, 16-Leads, Body 10.3x7.5mm, Pitch 1.27mm, IPC Low Density)
part A pins: 1 OUT A (out), 2 -IN A (in), 3 +IN A (in)
part B pins: 5 +IN B (in), 6 -IN B (in), 7 OUT B (out)
part C pins: 10 OUT C (out), 11 -IN C (in), 12 +IN C (in)
part D pins: 14 +IN D (in), 15 -IN D (in), 16 OUT D (out)
part E pins: 4 +V (power), 8 NC, 9 NC, 13 -V (power)

## OP400HPZ
designator U?
Quad Channel Low Supply Current Operational Amplifier, 500 KHz BW, 150 mV/us SR, Industrial, 14-pin DIP (N-14), Tube; Generic Part Number: OP400; Manufacturer: Analog Devices; PartNumber: OP400HPZ; Amplifiers Per Package: 4; Input Bias Current: 750pA; Input Offset Voltage: 80uV; Iq/Amp: 725uA; Small Signal Bandwidth: 500KHz; V Span Max: 40V; V Span Min: 6V; DatasheetVersion: Rev. G; PackageVersion: 070606-A; PackageReference: N-14; PackageDescription: 14-Pin Plastic Dual In-Line Package, Row spacing 7.62 mm, Pitch 2.54 mm; Supplier 1: Digi-Key; Supplier Part Number 1: OP400HPZ-ND; Supplier 2: Farnell; Supplier Part Number 2: 1438689; Supplier 3: Newark; Supplier Part Number 3: 59K8892; Packing: Tube; Slew Rate: 150mV/us; Mounting Technology: Through Hole; Code_JEDEC: MS-001; ComponentLink1Description: Manufacturer URL; ComponentLink1URL: http://www.analog.com/en/index.html; ComponentLink2Description: Datasheet; ComponentLink2URL: http://www.analog.com/static/imported-files/data_sheets/OP400.pdf; ComponentLink3Description: Package Specification; ComponentLink3URL: http://www.analog.com/static/imported-files/packages/N_14.pdf
footprint ADI-N-14 (DIP, 14-Leads, Body 19.18x6.605mm, Pitch 2.54mm)
pins on every part: 4 +V (power), 11 -V (power)
part A pins: 1 OUT A (out), 2 -IN A (in), 3 +IN A (in)
part B pins: 5 +IN B (in), 6 -IN B (in), 7 OUT B (out)
part C pins: 8 OUT C (out), 9 -IN C (in), 10 +IN C (in)
part D pins: 12 +IN D (in), 13 -IN D (in), 14 OUT D (out)

## OP400HS
designator U?
Quad Channel Low Supply Current Operational Amplifier, 500 KHz BW, 150 mV/us SR, Industrial, 16-pin SOIC (RW-16), Tube; Generic Part Number: OP400; Manufacturer: Analog Devices; PartNumber: OP400HS; Amplifiers Per Package: 4; Input Bias Current: 750pA; Input Offset Voltage: 80uV; Iq/Amp: 725uA; Small Signal Bandwidth: 500KHz; V Span Max: 40V; V Span Min: 6V; DatasheetVersion: Rev. G; PackageVersion: 032707-B; PackageReference: RW-16; PackageDescription: 16-Pin Standard Small Outline Package, Body 10.3 x 7.5 mm, Pitch 1.27 mm; Supplier 1: Digi-Key; Supplier Part Number 1: OP400HS-ND; Supplier 2: Newark; Supplier Part Number 2: 05F8669; Packing: Tube; Slew Rate: 150mV/us; Mounting Technology: Surface Mount; Code_JEDEC: MS-013-AA; ComponentLink1Description: Manufacturer URL; ComponentLink1URL: http://www.analog.com/en/index.html; ComponentLink2Description: Datasheet; ComponentLink2URL: http://www.analog.com/static/imported-files/data_sheets/OP400.pdf; ComponentLink3Description: Package Specification; ComponentLink3URL: http://www.analog.com/static/imported-files/packages/PKG_PDF/SOIC_WIDE%20%28RW%29/RW_16.pdf
footprint ADI-RW-16_N (SOIC, 16-Leads, Body 10.3x7.5mm, Pitch 1.27mm,IPC Medium Density)
footprint ADI-RW-16_L (SOIC, 16-Leads, Body 10.3x7.5mm, Pitch 1.27mm, IPC High Density)
footprint ADI-RW-16_M (SOIC, 16-Leads, Body 10.3x7.5mm, Pitch 1.27mm, IPC Low Density)
part A pins: 1 OUT A (out), 2 -IN A (in), 3 +IN A (in)
part B pins: 5 +IN B (in), 6 -IN B (in), 7 OUT B (out)
part C pins: 10 OUT C (out), 11 -IN C (in), 12 +IN C (in)
part D pins: 14 +IN D (in), 15 -IN D (in), 16 OUT D (out)
part E pins: 4 +V (power), 8 NC, 9 NC, 13 -V (power)

## OP400HS-REEL
designator U?
Quad Channel Low Supply Current Operational Amplifier, 500 KHz BW, 150 mV/us SR, Industrial, 16-pin SOIC (RW-16), Reel; Generic Part Number: OP400; Manufacturer: Analog Devices; PartNumber: OP400HS-REEL; Amplifiers Per Package: 4; Input Bias Current: 750pA; Input Offset Voltage: 80uV; Iq/Amp: 725uA; Small Signal Bandwidth: 500KHz; V Span Max: 40V; V Span Min: 6V; DatasheetVersion: Rev. G; PackageVersion: 032707-B; PackageReference: RW-16; PackageDescription: 16-Pin Standard Small Outline Package, Body 10.3 x 7.5 mm, Pitch 1.27 mm; Supplier 1: Digi-Key; Supplier Part Number 1: OP400HS-REEL-ND; Supplier 2: Newark; Supplier Part Number 2: 13B4639; Packing: Reel; Slew Rate: 150mV/us; Mounting Technology: Surface Mount; Code_JEDEC: MS-013-AA; ComponentLink1Description: Manufacturer URL; ComponentLink1URL: http://www.analog.com/en/index.html; ComponentLink2Description: Datasheet; ComponentLink2URL: http://www.analog.com/static/imported-files/data_sheets/OP400.pdf; ComponentLink3Description: Package Specification; ComponentLink3URL: http://www.analog.com/static/imported-files/packages/PKG_PDF/SOIC_WIDE%20%28RW%29/RW_16.pdf
footprint ADI-RW-16_N (SOIC, 16-Leads, Body 10.3x7.5mm, Pitch 1.27mm,IPC Medium Density)
footprint ADI-RW-16_L (SOIC, 16-Leads, Body 10.3x7.5mm, Pitch 1.27mm, IPC High Density)
footprint ADI-RW-16_M (SOIC, 16-Leads, Body 10.3x7.5mm, Pitch 1.27mm, IPC Low Density)
part A pins: 1 OUT A (out), 2 -IN A (in), 3 +IN A (in)
part B pins: 5 +IN B (in), 6 -IN B (in), 7 OUT B (out)
part C pins: 10 OUT C (out), 11 -IN C (in), 12 +IN C (in)
part D pins: 14 +IN D (in), 15 -IN D (in), 16 OUT D (out)
part E pins: 4 +V (power), 8 NC, 9 NC, 13 -V (power)

## OP400HSZ
designator U?
Quad Channel Low Supply Current Operational Amplifier, 500 KHz BW, 150 mV/us SR, Industrial, 16-pin SOIC (RW-16), Tube; Generic Part Number: OP400; Manufacturer: Analog Devices; PartNumber: OP400HSZ; Amplifiers Per Package: 4; Input Bias Current: 750pA; Input Offset Voltage: 80uV; Iq/Amp: 725uA; Small Signal Bandwidth: 500KHz; V Span Max: 40V; V Span Min: 6V; DatasheetVersion: Rev. G; PackageVersion: 032707-B; PackageReference: RW-16; PackageDescription: 16-Pin Standard Small Outline Package, Body 10.3 x 7.5 mm, Pitch 1.27 mm; Supplier 1: Digi-Key; Supplier Part Number 1: OP400HSZ-ND; Supplier 2: Farnell; Supplier Part Number 2: 1661003; Supplier 3: Newark; Supplier Part Number 3: 19M8984; Packing: Tube; Slew Rate: 150mV/us; Mounting Technology: Surface Mount; Code_JEDEC: MS-013-AA; ComponentLink1Description: Manufacturer URL; ComponentLink1URL: http://www.analog.com/en/index.html; ComponentLink2Description: Datasheet; ComponentLink2URL: http://www.analog.com/static/imported-files/data_sheets/OP400.pdf; ComponentLink3Description: Package Specification; ComponentLink3URL: http://www.analog.com/static/imported-files/packages/PKG_PDF/SOIC_WIDE%20%28RW%29/RW_16.pdf
footprint ADI-RW-16_N (SOIC, 16-Leads, Body 10.3x7.5mm, Pitch 1.27mm,IPC Medium Density)
footprint ADI-RW-16_L (SOIC, 16-Leads, Body 10.3x7.5mm, Pitch 1.27mm, IPC High Density)
footprint ADI-RW-16_M (SOIC, 16-Leads, Body 10.3x7.5mm, Pitch 1.27mm, IPC Low Density)
part A pins: 1 OUT A (out), 2 -IN A (in), 3 +IN A (in)
part B pins: 5 +IN B (in), 6 -IN B (in), 7 OUT B (out)
part C pins: 10 OUT C (out), 11 -IN C (in), 12 +IN C (in)
part D pins: 14 +IN D (in), 15 -IN D (in), 16 OUT D (out)
part E pins: 4 +V (power), 8 NC, 9 NC, 13 -V (power)

## OP400HSZ-REEL
designator U?
Quad Channel Low Supply Current Operational Amplifier, 500 KHz BW, 150 mV/us SR, Industrial, 16-pin SOIC (RW-16), Reel; Generic Part Number: OP400; Manufacturer: Analog Devices; PartNumber: OP400HSZ-REEL; Amplifiers Per Package: 4; Input Bias Current: 750pA; Input Offset Voltage: 80uV; Iq/Amp: 725uA; Small Signal Bandwidth: 500KHz; V Span Max: 40V; V Span Min: 6V; DatasheetVersion: Rev. G; PackageVersion: 032707-B; PackageReference: RW-16; PackageDescription: 16-Pin Standard Small Outline Package, Body 10.3 x 7.5 mm, Pitch 1.27 mm; Supplier 1: Digi-Key; Supplier Part Number 1: OP400HSZ-REELTR-ND; Supplier 2: Digi-Key; Supplier Part Number 2: OP400HSZ-REELCT-ND; Supplier 3: Digi-Key; Supplier Part Number 3: OP400HSZ-REELDKR-ND; Supplier 4: Newark; Supplier Part Number 4: 59K8894; Packing: Reel; Slew Rate: 150mV/us; Mounting Technology: Surface Mount; Code_JEDEC: MS-013-AA; ComponentLink1Description: Manufacturer URL; ComponentLink1URL: http://www.analog.com/en/index.html; ComponentLink2Description: Datasheet; ComponentLink2URL: http://www.analog.com/static/imported-files/data_sheets/OP400.pdf; ComponentLink3Description: Package Specification; ComponentLink3URL: http://www.analog.com/static/imported-files/packages/PKG_PDF/SOIC_WIDE%20%28RW%29/RW_16.pdf
footprint ADI-RW-16_N (SOIC, 16-Leads, Body 10.3x7.5mm, Pitch 1.27mm,IPC Medium Density)
footprint ADI-RW-16_L (SOIC, 16-Leads, Body 10.3x7.5mm, Pitch 1.27mm, IPC High Density)
footprint ADI-RW-16_M (SOIC, 16-Leads, Body 10.3x7.5mm, Pitch 1.27mm, IPC Low Density)
part A pins: 1 OUT A (out), 2 -IN A (in), 3 +IN A (in)
part B pins: 5 +IN B (in), 6 -IN B (in), 7 OUT B (out)
part C pins: 10 OUT C (out), 11 -IN C (in), 12 +IN C (in)
part D pins: 14 +IN D (in), 15 -IN D (in), 16 OUT D (out)
part E pins: 4 +V (power), 8 NC, 9 NC, 13 -V (power)

## OP413ESZ
designator U?
Quad Channel Wide Bandwidth Operational Amplifier, 3.4 MHz BW, 1.2 V/us SR, Industrial, 16-pin SOIC (RW-16), Tube; Generic Part Number: OP413; Manufacturer: Analog Devices; PartNumber: OP413ESZ; Amplifiers Per Package: 4; Input Bias Current: 600nA; Input Offset Voltage: 125uV; Iq/Amp: 3mA; Small Signal Bandwidth: 3.4MHz; V Span Max: 36V; V Span Min: 4V; DatasheetVersion: Rev. F; PackageVersion: 032707-B; PackageReference: RW-16; PackageDescription: 16-Pin Standard Small Outline Package, Body 10.3 x 7.5 mm, Pitch 1.27 mm; Supplier 1: Digi-Key; Supplier Part Number 1: OP413ESZ-ND; Supplier 2: Newark; Supplier Part Number 2: 59K8896; Slew Rate: 1.2V/us; Mounting Technology: Surface Mount; Code_JEDEC: MS-013-AA; ComponentLink1Description: Manufacturer URL; ComponentLink1URL: http://www.analog.com/en/index.html; ComponentLink2Description: Datasheet; ComponentLink2URL: http://www.analog.com/static/imported-files/data_sheets/OP113_213_413.pdf; ComponentLink3Description: Package Specification; ComponentLink3URL: http://www.analog.com/static/imported-files/packages/PKG_PDF/SOIC_WIDE%20%28RW%29/RW_16.pdf
footprint ADI-RW-16_N (SOIC, 16-Leads, Body 10.3x7.5mm, Pitch 1.27mm,IPC Medium Density)
footprint ADI-RW-16_L (SOIC, 16-Leads, Body 10.3x7.5mm, Pitch 1.27mm, IPC High Density)
footprint ADI-RW-16_M (SOIC, 16-Leads, Body 10.3x7.5mm, Pitch 1.27mm, IPC Low Density)
part A pins: 1 OUT A (out), 2 -IN A (in), 3 +IN A (in)
part B pins: 5 +IN B (in), 6 -IN B (in), 7 OUT B (out)
part C pins: 10 OUT C (out), 11 -IN C (in), 12 +IN C (in)
part D pins: 14 +IN D (in), 15 -IN D (in), 16 OUT D (out)
part E pins: 4 +V (power), 8 NC, 9 NC, 13 -V (power)

## OP413ESZ-REEL
designator U?
Quad Channel Wide Bandwidth Operational Amplifier, 3.4 MHz BW, 1.2 V/us SR, Industrial, 16-pin SOIC (RW-16), Reel; Generic Part Number: OP413; Manufacturer: Analog Devices; PartNumber: OP413ESZ-REEL; Amplifiers Per Package: 4; Input Bias Current: 600nA; Input Offset Voltage: 125uV; Iq/Amp: 3mA; Small Signal Bandwidth: 3.4MHz; V Span Max: 36V; V Span Min: 4V; DatasheetVersion: Rev. F; PackageVersion: 032707-B; PackageReference: RW-16; PackageDescription: 16-Pin Standard Small Outline Package, Body 10.3 x 7.5 mm, Pitch 1.27 mm; Supplier 1: Digi-Key; Supplier Part Number 1: OP413ESZ-REEL-ND; Supplier 2: Newark; Supplier Part Number 2: 59K8897; Slew Rate: 1.2V/us; Mounting Technology: Surface Mount; Code_JEDEC: MS-013-AA; ComponentLink1Description: Manufacturer URL; ComponentLink1URL: http://www.analog.com/en/index.html; ComponentLink2Description: Datasheet; ComponentLink2URL: http://www.analog.com/static/imported-files/data_sheets/OP113_213_413.pdf; ComponentLink3Description: Package Specification; ComponentLink3URL: http://www.analog.com/static/imported-files/packages/PKG_PDF/SOIC_WIDE%20%28RW%29/RW_16.pdf
footprint ADI-RW-16_N (SOIC, 16-Leads, Body 10.3x7.5mm, Pitch 1.27mm,IPC Medium Density)
footprint ADI-RW-16_L (SOIC, 16-Leads, Body 10.3x7.5mm, Pitch 1.27mm, IPC High Density)
footprint ADI-RW-16_M (SOIC, 16-Leads, Body 10.3x7.5mm, Pitch 1.27mm, IPC Low Density)
part A pins: 1 OUT A (out), 2 -IN A (in), 3 +IN A (in)
part B pins: 5 +IN B (in), 6 -IN B (in), 7 OUT B (out)
part C pins: 10 OUT C (out), 11 -IN C (in), 12 +IN C (in)
part D pins: 14 +IN D (in), 15 -IN D (in), 16 OUT D (out)
part E pins: 4 +V (power), 8 NC, 9 NC, 13 -V (power)

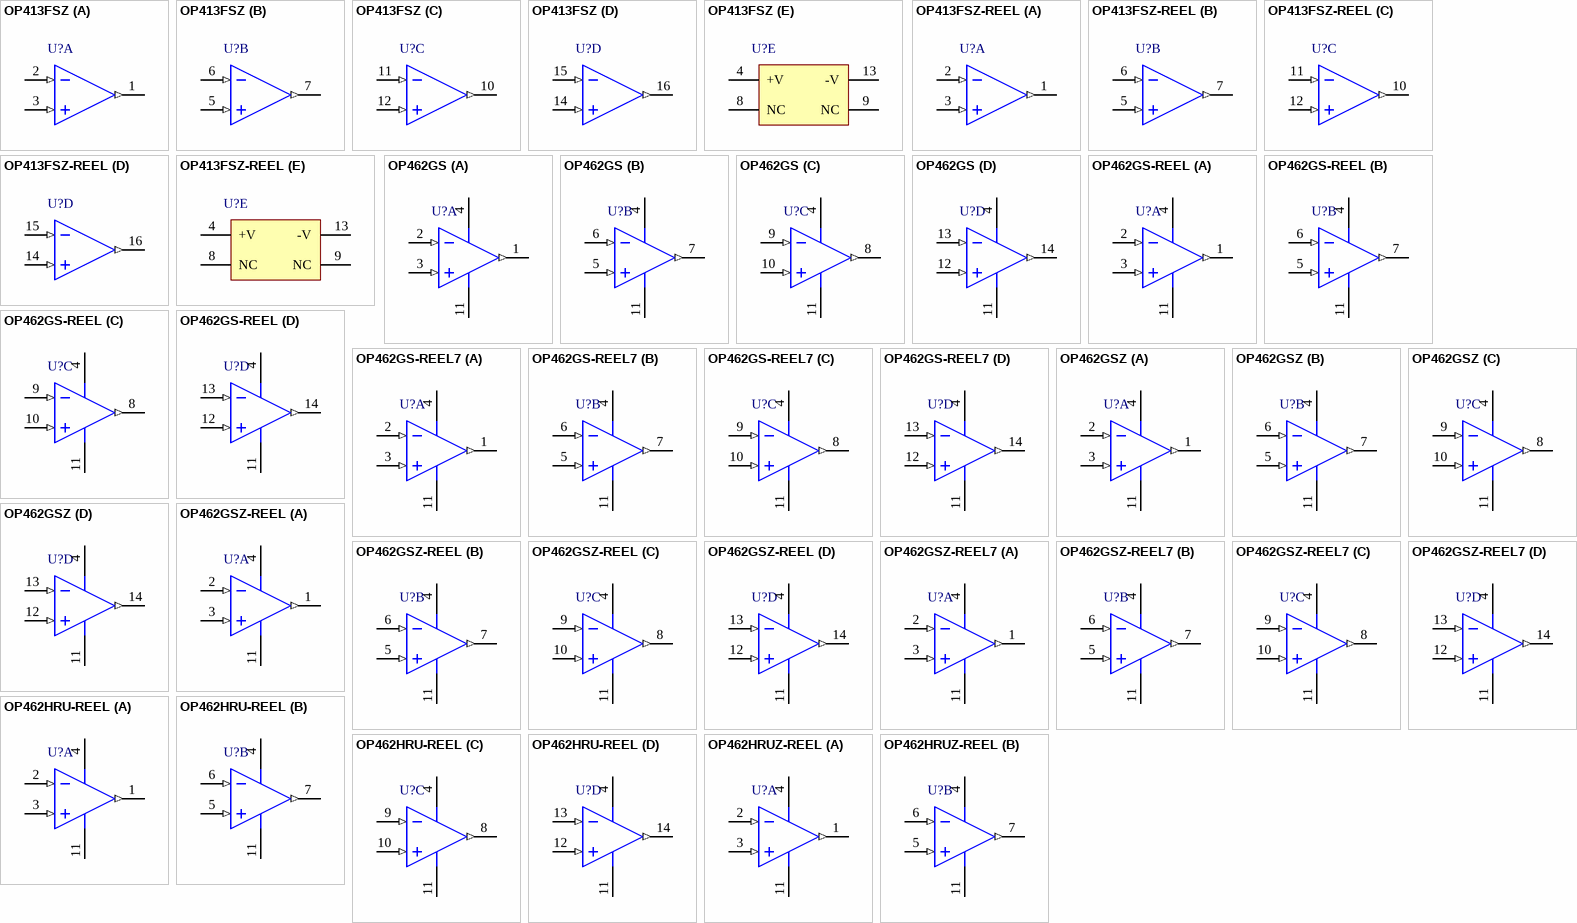
[diagram p102: symbols OP413FSZ to OP462HRUZ-REEL]

## OP413FSZ
designator U?
Quad Channel Wide Bandwidth Operational Amplifier, 3.4 MHz BW, 1.2 V/us SR, Industrial, 16-pin SOIC (RW-16), Tube; Generic Part Number: OP413; Manufacturer: Analog Devices; PartNumber: OP413FSZ; Amplifiers Per Package: 4; Input Bias Current: 600nA; Input Offset Voltage: 275uV; Iq/Amp: 3mA; Small Signal Bandwidth: 3.4MHz; V Span Max: 36V; V Span Min: 4V; DatasheetVersion: Rev. F; PackageVersion: 032707-B; PackageReference: RW-16; PackageDescription: 16-Pin Standard Small Outline Package, Body 10.3 x 7.5 mm, Pitch 1.27 mm; Supplier 1: Digi-Key; Supplier Part Number 1: OP413FSZ-ND; Supplier 2: Newark; Supplier Part Number 2: 59K8898; Slew Rate: 1.2V/us; Mounting Technology: Surface Mount; Code_JEDEC: MS-013-AA; ComponentLink1Description: Manufacturer URL; ComponentLink1URL: http://www.analog.com/en/index.html; ComponentLink2Description: Datasheet; ComponentLink2URL: http://www.analog.com/static/imported-files/data_sheets/OP113_213_413.pdf; ComponentLink3Description: Package Specification; ComponentLink3URL: http://www.analog.com/static/imported-files/packages/PKG_PDF/SOIC_WIDE%20%28RW%29/RW_16.pdf
footprint ADI-RW-16_N (SOIC, 16-Leads, Body 10.3x7.5mm, Pitch 1.27mm,IPC Medium Density)
footprint ADI-RW-16_L (SOIC, 16-Leads, Body 10.3x7.5mm, Pitch 1.27mm, IPC High Density)
footprint ADI-RW-16_M (SOIC, 16-Leads, Body 10.3x7.5mm, Pitch 1.27mm, IPC Low Density)
part A pins: 1 OUT A (out), 2 -IN A (in), 3 +IN A (in)
part B pins: 5 +IN B (in), 6 -IN B (in), 7 OUT B (out)
part C pins: 10 OUT C (out), 11 -IN C (in), 12 +IN C (in)
part D pins: 14 +IN D (in), 15 -IN D (in), 16 OUT D (out)
part E pins: 4 +V (power), 8 NC, 9 NC, 13 -V (power)

## OP413FSZ-REEL
designator U?
Quad Channel Wide Bandwidth Operational Amplifier, 3.4 MHz BW, 1.2 V/us SR, Industrial, 16-pin SOIC (RW-16), Reel; Generic Part Number: OP413; Manufacturer: Analog Devices; PartNumber: OP413FSZ-REEL; Amplifiers Per Package: 4; Input Bias Current: 600nA; Input Offset Voltage: 275uV; Iq/Amp: 3mA; Small Signal Bandwidth: 3.4MHz; V Span Max: 36V; V Span Min: 4V; DatasheetVersion: Rev. F; PackageVersion: 032707-B; PackageReference: RW-16; PackageDescription: 16-Pin Standard Small Outline Package, Body 10.3 x 7.5 mm, Pitch 1.27 mm; Supplier 1: Digi-Key; Supplier Part Number 1: OP413FSZ-REELTR-ND; Supplier 2: Digi-Key; Supplier Part Number 2: OP413FSZ-REELCT-ND; Supplier 3: Digi-Key; Supplier Part Number 3: OP413FSZ-REELDKR-ND; Slew Rate: 1.2V/us; Mounting Technology: Surface Mount; Code_JEDEC: MS-013-AA; ComponentLink1Description: Manufacturer URL; ComponentLink1URL: http://www.analog.com/en/index.html; ComponentLink2Description: Datasheet; ComponentLink2URL: http://www.analog.com/static/imported-files/data_sheets/OP113_213_413.pdf; ComponentLink3Description: Package Specification; ComponentLink3URL: http://www.analog.com/static/imported-files/packages/PKG_PDF/SOIC_WIDE%20%28RW%29/RW_16.pdf
footprint ADI-RW-16_N (SOIC, 16-Leads, Body 10.3x7.5mm, Pitch 1.27mm,IPC Medium Density)
footprint ADI-RW-16_L (SOIC, 16-Leads, Body 10.3x7.5mm, Pitch 1.27mm, IPC High Density)
footprint ADI-RW-16_M (SOIC, 16-Leads, Body 10.3x7.5mm, Pitch 1.27mm, IPC Low Density)
part A pins: 1 OUT A (out), 2 -IN A (in), 3 +IN A (in)
part B pins: 5 +IN B (in), 6 -IN B (in), 7 OUT B (out)
part C pins: 10 OUT C (out), 11 -IN C (in), 12 +IN C (in)
part D pins: 14 +IN D (in), 15 -IN D (in), 16 OUT D (out)
part E pins: 4 +V (power), 8 NC, 9 NC, 13 -V (power)

## OP462GS
designator U?
Quad Channel Rail-to-Rail Operational Amplifier, 15 MHz BW, 13 V/us SR, Industrial, 14-pin SOIC (R-14), Tube; Generic Part Number: OP462; Manufacturer: Analog Devices; PartNumber: OP462GS; Amplifiers Per Package: 4; Input Bias Current: 260nA; Input Offset Voltage: 25uV; Iq/Amp: 775uA; Slew Rate: 13V/us; Small Signal Bandwidth: 15MHz; V Span Max: 12V; V Span Min: 2.7V; DatasheetVersion: Rev. G; PackageVersion: 060606-A; PackageReference: R-14; PackageDescription: 14-Pin Standard Small Outline Package, Body 8.65 x 3.9 mm, Pitch 1.27 mm; Supplier 1: Digi-Key; Supplier Part Number 1: OP462GS-ND; Mounting Technology: Surface Mount; Code_JEDEC: MS-012-AB; ComponentLink1Description: Manufacturer URL; ComponentLink1URL: http://www.analog.com/en/index.html; ComponentLink2Description: Datasheet; ComponentLink2URL: http://www.analog.com/static/imported-files/data_sheets/OP162_262_462.pdf; ComponentLink3Description: Package Specification; ComponentLink3URL: http://www.analog.com/static/imported-files/packages/PKG_PDF/SOIC_Narrow%20(R)/R_14.pdf
footprint ADI-R-14_N (SOIC, 14-Leads, Body 8.65x3.9mm, Pitch 1.27mm, IPC Medium Density)
footprint ADI-R-14_L (SOIC, 14-Leads, Body 8.65x3.9mm, Pitch 1.27mm, IPC High Density)
footprint ADI-R-14_M (SOIC, 14-Leads, Body 8.65x3.9mm, Pitch 1.27mm, IPC Low Density)
pins on every part: 4 +V (power), 11 -V (power)
part A pins: 1 OUT A (out), 2 -IN A (in), 3 +IN A (in)
part B pins: 5 +IN B (in), 6 -IN B (in), 7 OUT B (out)
part C pins: 8 OUT C (out), 9 -IN C (in), 10 +IN C (in)
part D pins: 12 +IN D (in), 13 -IN D (in), 14 OUT D (out)

## OP462GS-REEL
designator U?
Quad Channel Rail-to-Rail Operational Amplifier, 15 MHz BW, 13 V/us SR, Industrial, 14-pin SOIC (R-14), Reel; Generic Part Number: OP462; Manufacturer: Analog Devices; PartNumber: OP462GS-REEL; Amplifiers Per Package: 4; Input Bias Current: 260nA; Input Offset Voltage: 25uV; Iq/Amp: 775uA; Slew Rate: 13V/us; Small Signal Bandwidth: 15MHz; V Span Max: 12V; V Span Min: 2.7V; DatasheetVersion: Rev. G; PackageVersion: 060606-A; PackageReference: R-14; PackageDescription: 14-Pin Standard Small Outline Package, Body 8.65 x 3.9 mm, Pitch 1.27 mm; Supplier 1: Digi-Key; Supplier Part Number 1: OP462GS-REEL-ND; Supplier 2: Newark; Supplier Part Number 2: 13B4652; Mounting Technology: Surface Mount; Code_JEDEC: MS-012-AB; ComponentLink1Description: Manufacturer URL; ComponentLink1URL: http://www.analog.com/en/index.html; ComponentLink2Description: Datasheet; ComponentLink2URL: http://www.analog.com/static/imported-files/data_sheets/OP162_262_462.pdf; ComponentLink3Description: Package Specification; ComponentLink3URL: http://www.analog.com/static/imported-files/packages/PKG_PDF/SOIC_Narrow%20(R)/R_14.pdf
footprint ADI-R-14_N (SOIC, 14-Leads, Body 8.65x3.9mm, Pitch 1.27mm, IPC Medium Density)
footprint ADI-R-14_L (SOIC, 14-Leads, Body 8.65x3.9mm, Pitch 1.27mm, IPC High Density)
footprint ADI-R-14_M (SOIC, 14-Leads, Body 8.65x3.9mm, Pitch 1.27mm, IPC Low Density)
pins on every part: 4 +V (power), 11 -V (power)
part A pins: 1 OUT A (out), 2 -IN A (in), 3 +IN A (in)
part B pins: 5 +IN B (in), 6 -IN B (in), 7 OUT B (out)
part C pins: 8 OUT C (out), 9 -IN C (in), 10 +IN C (in)
part D pins: 12 +IN D (in), 13 -IN D (in), 14 OUT D (out)